# Altium schematic symbol library Qi Adapter Components.SchLib: 19 symbols
Pins are listed as number, name and electrical type; pins without a type are passive.

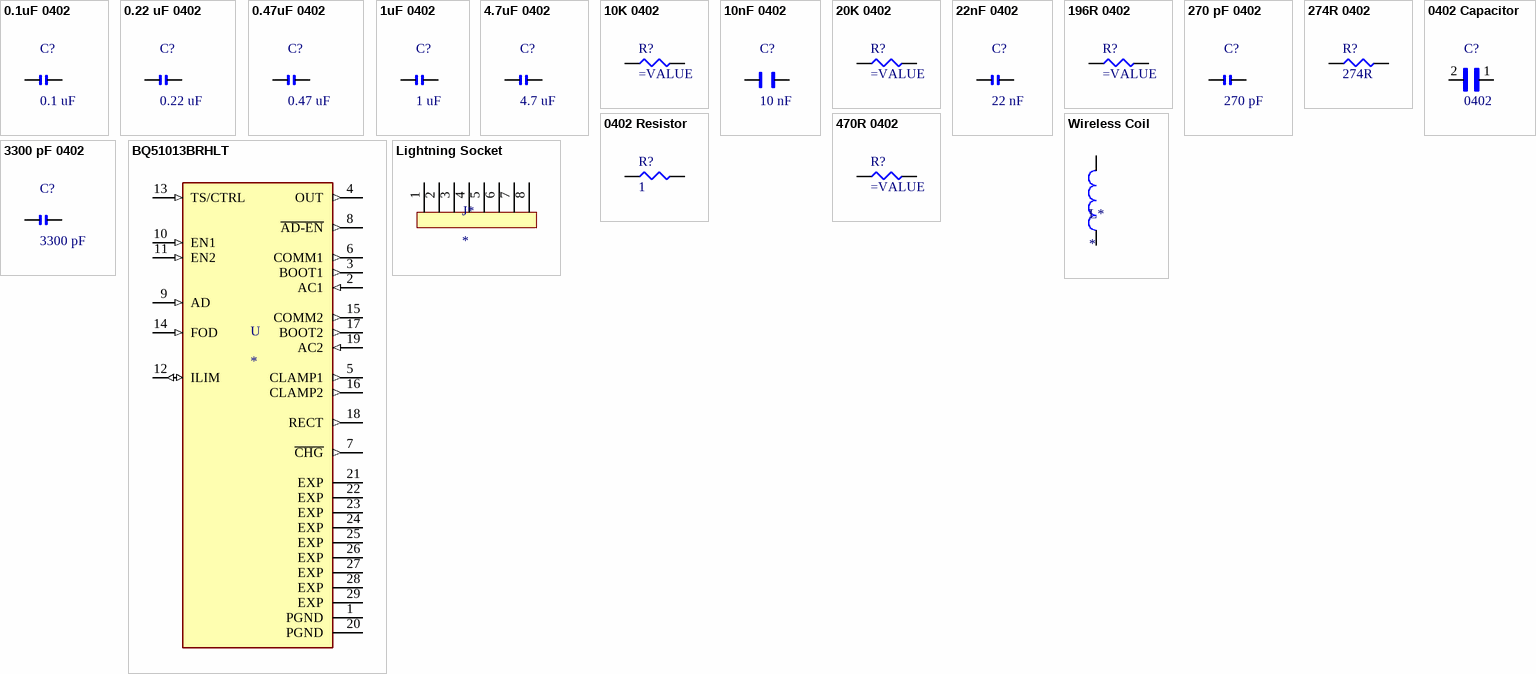
[diagram p0: symbols 0.1uF 0402 to Wireless Coil]

## 0.1uF 0402
designator C?, comment 0.1 uF
0.1µF -20%, +80% 16V Ceramic Capacitor Y5V (F) 0402; MF: Samsung Electro-Mechanics; MP: CL05F104ZO5NNNC; Digikey Part: 1276-1004-1-ND; Link: https://www.digikey.ca/product-detail/en/samsung-electro-mechanics/CL05F104ZO5NNNC/1276-1004-1-ND/3889090; Availability: Available; Package: 0402; Price: 0.16; Value: 0.1 uF
footprint SMD-0402-CAP
pins: 1, 2

## 0.22 uF 0402
designator C?, comment 0.22 uF
0.22µF ±10% 25V Ceramic Capacitor X5R 0402; MF: Murata Electronics; MP: GRT155R61E224KE01D; Digikey Part: 490-12265-1-ND; Link: https://www.digikey.ca/product-detail/en/murata-electronics/GRT155R61E224KE01D/490-12265-1-ND/5416966; Availability: Available; Package: 0402; Price: 0.16; Value: 0.22 uF
footprint SMD-0402-CAP
pins: 1, 2

## 0.47uF 0402
designator C?, comment 0.47 uF
0.47µF ±10% 25V Ceramic Capacitor X5R 0402; MF: Murata Electronics; MP: GRT155R61E474KE01D; Digikey Part: 490-12269-1-ND; Link: https://www.digikey.ca/product-detail/en/murata-electronics/GRT155R61E474KE01D/490-12269-1-ND/5416970; Availability: Available; Package: 0402; Price: 0.19; Value: 0.47 uF
footprint SMD-0402-CAP
pins: 1, 2

## 1uF 0402
designator C?, comment 1 uF
1µF ±10% 16V Ceramic Capacitor X5R 0402; MF: Samsung Electro-Mechanics; MP: CL05A105KO5NNNC; Digikey Part: 1276-1067-1-ND; Link: https://www.digikey.ca/product-detail/en/samsung-electro-mechanics/CL05A105KO5NNNC/1276-1067-1-ND/3889153; Availability: Available; Package: 0402; Price: 0.16; Value: 1 uF
footprint SMD-0402-CAP
pins: 1, 2

## 4.7uF 0402
designator C?, comment 4.7 uF
4.7µF ±20% 16V Ceramic Capacitor X5R 0402; MF: AVX Corporation; MP: 0402YD475MAT2A; Digikey Part: 478-10788-1-ND; Link: https://www.digikey.ca/product-detail/en/avx-corporation/0402YD475MAT2A/478-10788-1-ND/7536324; Availability: Available; Package: 0402; Price: 0.52; Value: 4.7 uF
footprint SMD-0402-CAP
pins: 1, 2

## 10K 0402
designator R?
10 kOhms ±5% 0.063W, 1/16W Chip Resistor 0402 Moisture Resistant Thick Film; Part Number: RC0402JR-0710KL; Manufacturer: Yageo; Digi-Key Part Number: 311-10KJRCT-ND; Price: 0.17; Tolerance: ±5%; Package / Case: 0402; Supplier Device Package: 0402; Link: https://www.digikey.ca/product-detail/en/yageo/RC0402JR-0710KL/311-10KJRCT-ND/729365
footprint SMD-0402-RES
pins: 1, 2

## 10nF 0402
designator C?, comment 10 nF
10000pF ±10% 25V Ceramic Capacitor X7R 0402; MF: KEMET; MP: C0402C103K3RACTU; Digikey Part: 399-1278-1-ND; Link: https://www.digikey.ca/product-detail/en/kemet/C0402C103K3RACTU/399-1278-1-ND/416054; Availability: Available; Package: 0402; Price: 0.16; Value: 10 nF
footprint SMD-0402-CAP
pins: 1, 2

## 20K 0402
designator R?
20 kOhms ±1% 0.1W, 1/10W Chip Resistor 0402; Part Number: ERJ-2RKF2002X; Manufacturer: Panasonic Electronic Components; Digi-Key Part Number: P20.0KLCT-ND; Price: .16; Tolerance: ±1%; Package / Case: 0402; Supplier Device Package: 0402; Link: https://www.digikey.ca/product-detail/en/panasonic-electronic-components/ERJ-2RKF2002X/P20-0KLCT-ND/194250
footprint SMD-0402-RES
pins: 1, 2

## 22nF 0402
designator C?, comment 22 nF
0.022µF -20%, +80% 25V Ceramic Capacitor Y5V (F) 0402; MF: Yageo; MP: CC0402ZRY5V8BB223; Digikey Part: 311-3823-1-ND; Link: https://www.digikey.ca/product-detail/en/yageo/CC0402ZRY5V8BB223/311-3823-1-ND/8024912; Availability: Available; Package: 0402; Price: 0.16; Value: 22 nF
footprint SMD-0402-CAP
pins: 1, 2

## 196R 0402
designator R?
196 Ohms ±1% 0.1W, 1/10W Chip Resistor 0402; Part Number: ERJ-2RKF1960X; Manufacturer: Panasonic Electronic Components; Digi-Key Part Number: P196LCT-ND; Price: .16; Tolerance: ±1%; Package / Case: 0402; Supplier Device Package: 0402; Link: https://www.digikey.ca/product-detail/en/panasonic-electronic-components/ERJ-2RKF1960X/P196LCT-ND/194231
footprint SMD-0402-RES
pins: 0, 1

## 270 pF 0402
designator C?, comment 270 pF
270pF ±5% 25V Ceramic Capacitor C0G, NP0 040; MF: KEMET; MP: C0402C271J3GAC7867; Digikey Part: 399-15315-1-ND; Link: https://www.digikey.ca/product-detail/en/kemet/C0402C271J3GAC7867/399-15315-1-ND/7386713; Availability: Available; Package: 0402; Price: 0.16; Value: 270 pF
footprint SMD-0402-CAP
pins: 1, 2

## 274R 0402
designator R?, comment 274R
274 Ohms ±1% 0.1W, 1/10W Chip Resistor 0402; Part Number: ERJ-2RKF2740X; Manufacturer: Panasonic Electronic Components; Digi-Key Part Number: P274LCT-ND; Price: .16; Tolerance: ±1%; Package / Case: 0402; Supplier Device Package: 0402; Link: https://www.digikey.ca/product-detail/en/panasonic-electronic-components/ERJ-2RKF2740X/P274LCT-ND/194305
footprint SMD-0402-RES
pins: 1, 2

## 0402 Capacitor
designator C?, comment 0402
CAP SMD 0402; MP: S-0402; MF: Johanson; SnapEDA_Link: https://www.snapeda.com/parts/S-0402/Johanson/view-part/4220759/?ref=snap; Availability: Unavailable; Package: 0402 Johanson; Price: None; Value: *
footprint SMD-0402-CAP
pins: 1, 2

## 0402 Resistor
designator R?, comment 1
RES SMD 0402; Part Number: ERJ-2BQF1R0X; Manufacturer: Panasonic Electronic Components; Factory Stock: 0; Unit Price (USD): 0.09843; @ qty: 1500; Tolerance: ±1%; Power (Watts): 0.167W, 1/6W; Temperature Coefficient: ±250ppm/°C; Datasheets: https://industrial.panasonic.com/cdbs/www-data/pdf/RDA0000/AOA0000C239.pdf; Image: //media.digikey.com/Photos/Panasonic%20Photos/ERJ-PA2-Series.jpg; Digi-Key Part Number: P17252CT-ND; Quantity Available: 9090; Minimum Quantity: 1; Packaging: Cut Tape (CT); Series: ERJ; Part Status: Active; Value: 1; Composition: Thick Film; Features: Automotive AEC-Q200, Current Sense; Operating Temperature: -55°C ~ 125°C; Package / Case: 0402 (1005 Metric); Supplier Device Package: 0402; Size / Dimension: 0.039" L x 0.020" W (1.00mm x 0.50mm); Height - Seated (Max): 0.016" (0.40mm); Number of Terminations: 2; Failure Rate: -
footprint SMD-0402-RES
pins: 1, 2

## 470R 0402
designator R?
470 Ohms ±1% 0.1W, 1/10W Chip Resistor 0402; Part Number: ERJ-2RKF4700X; Manufacturer: Panasonic Electronic Components; Digi-Key Part Number: P470LCT-ND; Price: .16; Tolerance: ±1%; Package / Case: 0402; Supplier Device Package: 0402; Link: https://www.digikey.ca/product-detail/en/panasonic-electronic-components/ERJ-2RKF4700X/P470LCT-ND/1746691
footprint SMD-0402-RES
pins: 1, 2

## 3300 pF 0402
designator C?, comment 3300 pF
3300pF ±10% 25V Ceramic Capacitor X7R 0402; MF: Würth Elektronik; MP: 885012205047; Digikey Part: 732-7542-1-ND; Link: https://www.digikey.ca/product-detail/en/w%C3%BCrth-elektronik/885012205047/732-7542-1-ND/5454169; Availability: Available; Package: 0402; Price: 0.16; Value: 3300 pF
footprint SMD-0402-CAP
pins: 1, 2

## BQ51013BRHLT
designator U
Wireless Power Receiver PMIC 20-VQFN _3.5x4.5_; MF: Texas Instruments; MP: BQ51013BRHLT; Digi-Key_Part_Number: 296-35638-1-ND; SnapEDA_Link: https://www.snapeda.com/parts/BQ51013BRHLT/Texas%20Instruments/view-part/46178/?ref=snap; Value: *; Digi-Key_Purchase_URL: https://www.digikey.com/product-detail/en/texas-instruments/BQ51013BRHLT/296-35638-1-ND/3877679?utm_source=snapeda&utm_medium=aggregator&utm_campaign=symbol; Package: VQFN-20 Texas Instruments
footprint IC_BQ51013BRHLT
pins: 1 PGND (power), 2 AC1 (in), 3 BOOT1 (out), 4 OUT (out), 5 CLAMP1 (out), 6 COMM1 (out), 7 ~{CHG} (out), 8 ~{AD-EN} (out), 9 AD (in), 10 EN1 (in), 11 EN2 (in), 12 ILIM (io), 13 TS/CTRL (in), 14 FOD (in), 15 COMM2 (out), 16 CLAMP2 (out), 17 BOOT2 (out), 18 RECT (out), 19 AC2 (in), 20 PGND (power), 21 EXP, 22 EXP, 23 EXP, 24 EXP, 25 EXP, 26 EXP, 27 EXP, 28 EXP, 29 EXP

## Lightning Socket
designator J*
Female Lightning Socket
footprint Lightning Connector
pins: 1 GND "Ground", 2 L0+ "Lane 0 Positive", 3 L0- "Lane 0 Negative", 4 ID0 "Lane 0 ID/control", 5 Vcc "5V Power", 6 L1- "Lane 1 Negative", 7 L1+ "Lane 1 Positive", 8 ID1 "Lane 1 ID/control"

## Wireless Coil
designator L*
Qi Compatible Wireless Receiver Coil; ComponentLink1Description: Digikey Link; ComponentLink1URL: https://www.digikey.ca/products/en/inductors-coils-chokes/wireless-charging-coils/75?k=wireless+coil&k=&pkeyword=wireless+coil&sv=0&pv46=15578&sf=1&FV=-8%7C75&quantity=&ColumnSort=0&page=1&pageSize=25
footprint Qi Coil (Wireless Coil)
pins: 1, 2